# EAGLE library part NEWPORT8712 (library Newport_8712_v2)
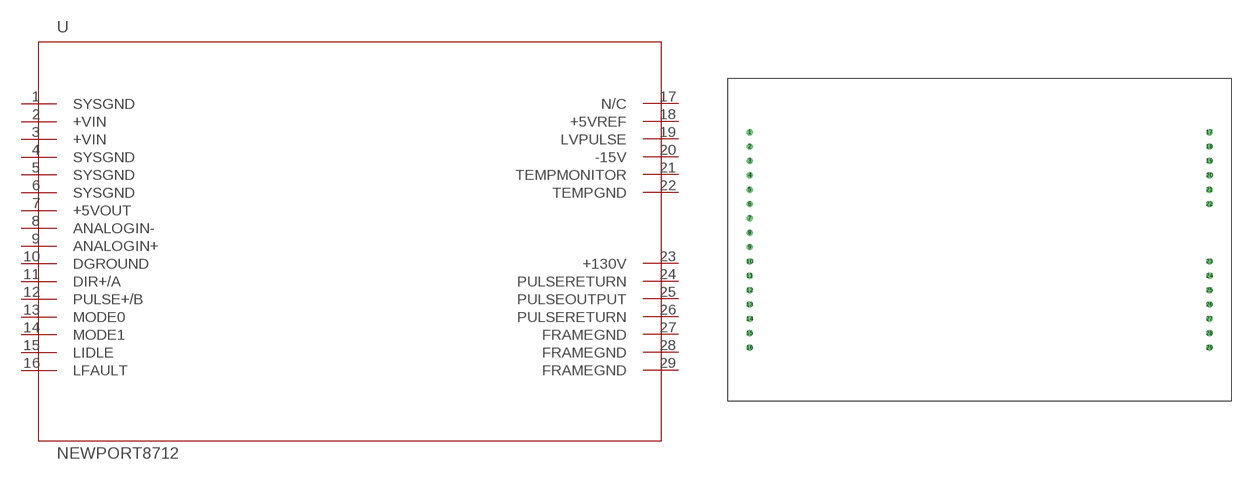
[diagram p0: symbol with the pads of NEWPORT8712; footprint NEWPORT8712]

Designator prefix -

## NEWPORT8712  [NEWPORT8712]
1  SYSGND
2  +VIN
3  +VIN
4  SYSGND
5  SYSGND
6  SYSGND
7  +5VOUT
8  ANALOGIN-
9  ANALOGIN+
10  DGROUND
11  DIR+/A
12  PULSE+/B
13  MODE0
14  MODE1
15  LIDLE
16  LFAULT
17  N/C
18  +5VREF
19  LVPULSE
20  -15V
21  TEMPMONITOR
22  TEMPGND
23  +130V
24  PULSERETURN
25  PULSEOUTPUT
26  PULSERETURN
27  FRAMEGND
28  FRAMEGND
29  FRAMEGND

## Footprint NEWPORT8712 (pad centres in mm)
drill 0.6: 1 3.81,47.625; 2 3.81,45.085; 3 3.81,42.545; 4 3.81,40.005; 5 3.81,37.465; 6 3.81,34.925; 7 3.81,32.385; 8 3.81,29.845; 9 3.81,27.305; 10 3.81,24.765; 11 3.81,22.225; 12 3.81,19.685; 13 3.81,17.145; 14 3.81,14.605; 15 3.81,12.065; 16 3.81,9.525; 17 85.09,47.625; 18 85.09,45.085; 19 85.09,42.545; 20 85.09,40.005; 21 85.09,37.465; 22 85.09,34.925; 23 85.09,24.765; 24 85.09,22.225; 25 85.09,19.685; 26 85.09,17.145; 27 85.09,14.605; 28 85.09,12.065; 29 85.09,9.525